# Altium integrated library 6130XX21821_61304021821.IntLib: 1 symbol
Pins are listed as number, name and electrical type; pins without a type are passive.

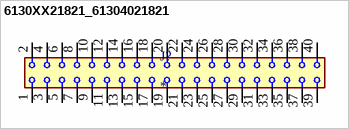
[diagram p0: symbol 6130XX21821_61304021821]

## 6130XX21821_61304021821
designator J?
40 Position Receptacle Connector 0.100 (2.54mm) Through Hole Gold; MF: WÃ¼rth Elektronik; MP: 61304021821; SnapEDA_Link: https://www.snapeda.com/parts/61304021821/W%25C3%25BCrth+Elektronik+Midcom/view-part/?ref=snap; Package: None; Value: *; Check_prices: https://www.snapeda.com/parts/61304021821/W%25C3%25BCrth+Elektronik+Midcom/view-part/?ref=eda
footprint 61304021821
pins: 1, 2, 3, 4, 5, 6, 7, 8, 9, 10, 11, 12, 13, 14, 15, 16, 17, 18, 19, 20, 21, 22, 23, 24, 25, 26, 27, 28, 29, 30, 31, 32, 33, 34, 35, 36, 37, 38, 39, 40